# Altium schematic symbol library LED_0603_SMD.SchLib: 3 symbols
Pins are listed as number, name and electrical type; pins without a type are passive.

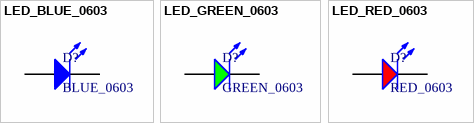
[diagram p0: symbols LED_BLUE_0603 to LED_RED_0603]

## LED_BLUE_0603
designator D?, comment BLUE_0603
LED BLUE CLEAR CHIP SMD; Supplier 1: Digi-Key; Supplier Part Number 1: 160-1827-1-ND
footprint LED_0603_SMD (General Pads for LiteON 0603 LED)
pins: 1 A, 2 K

## LED_GREEN_0603
designator D?, comment GREEN_0603
LED GREEN CLEAR SMD; Supplier 1: Digi-Key; Supplier Part Number 1: 160-1446-1-ND
footprint LED_0603_SMD (General Pads for LiteON 0603 LED)
pins: 1 A, 2 K

## LED_RED_0603
designator D?, comment RED_0603
LED RED CLEAR SMD; Supplier 1: Digi-Key; Supplier Part Number 1: 160-1447-1-ND
footprint LED_0603_SMD (General Pads for LiteON 0603 LED)
pins: 1 A, 2 K